# Altium footprint library TSOP-54_L22.2-W10.2-P0.80-LS11.8-BL.PcbLib: 1 footprints
Each footprint in its own frame and in the unit in brackets; x right, y up, seen from the top. Pads: shape width x height; smd on the part's side, far side on the other; paste and mask are expansions set on the pad; w line width, h text height; cw(c..) or ccw(c..) is an arc to the next point about the centre after c.
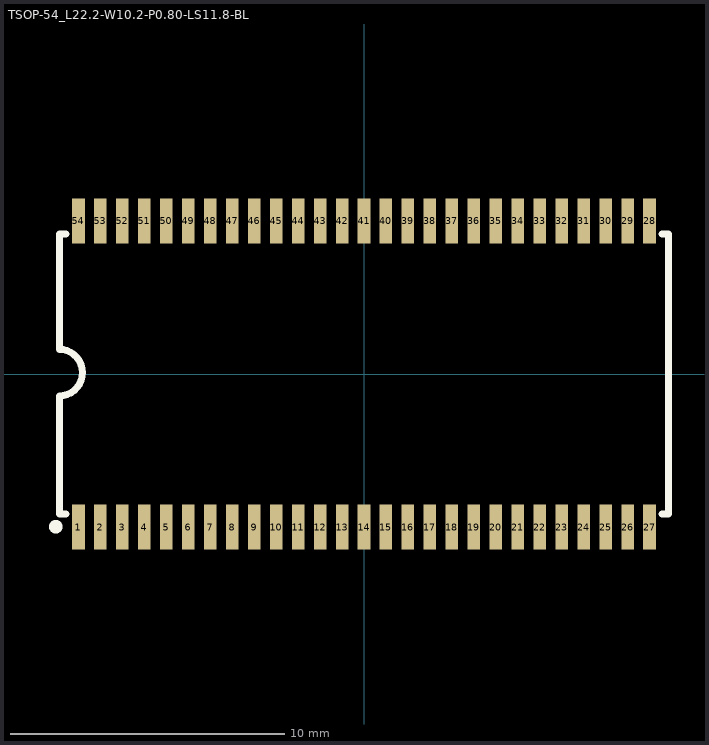
[diagram p0: the footprint, top view; thin cyan lines are the x and y axes]

## TSOP-54_L22.2-W10.2-P0.80-LS11.8-BL [mil]
pads (54):
  rect 18x65 smd: 1(-409.45,-219.5) 2(-377.95,-219.5) 3(-346.46,-219.5) 4(-314.96,-219.5) 5(-283.46,-219.5) 6(-251.97,-219.5) 7(-220.47,-219.5) 8(-188.98,-219.5) 9(-157.48,-219.5) 10(-126,-219.5) 11(-94.49,-219.5) 12(-63,-219.5) 13(-31.5,-219.5) 14(0,-219.5) 15(31.5,-219.5) 16(63,-219.5) 17(94.49,-219.5) 18(125.98,-219.5) 19(157.48,-219.5) 20(188.98,-219.5) 21(220.47,-219.5) 22(251.97,-219.5) 23(283.46,-219.5) 24(314.96,-219.5) 25(346.46,-219.5) 26(377.95,-219.5) 27(409.45,-219.5) 28(409.45,219.5) 29(377.95,219.5) 30(346.46,219.5) 31(314.96,219.5) 32(283.46,219.5) 33(251.97,219.5) 34(220.47,219.5) 35(188.98,219.5) 36(157.48,219.5) 37(126,219.5) 38(94.49,219.5) 39(62.99,219.5) 40(31.5,219.5) 41(0,219.5) 42(-31.5,219.5) 43(-63,219.5) 44(-94.49,219.5) 45(-126,219.5) 46(-157.48,219.5) 47(-188.98,219.5) 48(-220.47,219.5) 49(-251.97,219.5) 50(-283.46,219.5) 51(-314.96,219.5) 52(-346.46,219.5) 53(-377.95,219.5) 54(-409.45,219.5)
Top Overlay:
  lines w9.8: -442,-223.9 cw(c-441.95,-219) -441.9,-223.9
  lines w10: -427.1,-200.79 -437.01,-200.79 -437.01,-31.5 ccw(c-437.19,1.97) -437.01,35.43 -437.01,200.79 -427.1,200.79 ; 427.1,-200.79 437.01,-200.79 437.01,200.79 427.1,200.79